# Altium schematic symbol library Power_connector.SchLib: 1 symbol
Pins are listed as number, name and electrical type; pins without a type are passive.

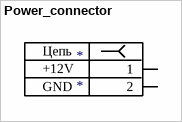
[diagram p0: symbol Power_connector]

## Power_connector
designator *
footprint CUI_PJ-037AH
pins: 1, 2
text: Цепь; +12V; GND